# Altium schematic symbol library Other.SchLib: 2 symbols
Pins are listed as number, name and electrical type; pins without a type are passive.

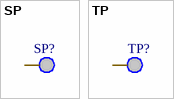
[diagram p0: symbols SP to TP]

## SP
designator SP?  (value not drawn)
footprint SP
pins: 1

## TP
designator TP?
footprint TP
pins: 1